# Altium schematic symbol library potentiometer.SchLib: 1 symbol
Pins are listed as number, name and electrical type; pins without a type are passive.

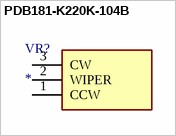
[diagram p0: symbol PDB181-K220K-104B]

## PDB181-K220K-104B
designator VR?
Variable Resistor; Manufacturer_Name: Bourns; Manufacturer_Part_Number: PDB181-K220K-104B; Description: Res Carbon Film POT 100K Ohm 20% 1/5W 1(Elec)/1(Mech)Turn 6mm (29.5 X 17 X 21mm) Pin Panel Mount/Through Hole; Datasheet Link: https://www.mouser.com/datasheet/2/54/PDB18-1013655.pdf; Height: 16.5mm; Mouser Part Number: 652-PDB181-K220K104B; Mouser Price/Stock: https://www.mouser.co.uk/ProductDetail/Bourns/PDB181-K220K-104B?qs=Ivs1Be2ZGq6BrJBXLYE2Gg%3D%3D; Arrow Part Number: PDB181-K220K-104B; Arrow Price/Stock: https://www.arrow.com/en/products/pdb181-k220k-104b/bourns?region=nac
footprint PDB181K220K104B
pins: 1 CCW, 2 WIPER, 3 CW